# EAGLE library part TDA8551 (library power_amp)
The TDA8551; TDA8551T is a one channel 1 W Bridge-Tied Load (BTL) audio power amplifier capable of delivering 1 W output power to an 8 ? load at THD = 10% using a 5 V power supply. The circuit contains a BTL power amplifier, a digital volume control and standby/mute logic. The TDA8551T comes in an 8 pin SO package and the TDA8551 in a 8 pin DIP package.
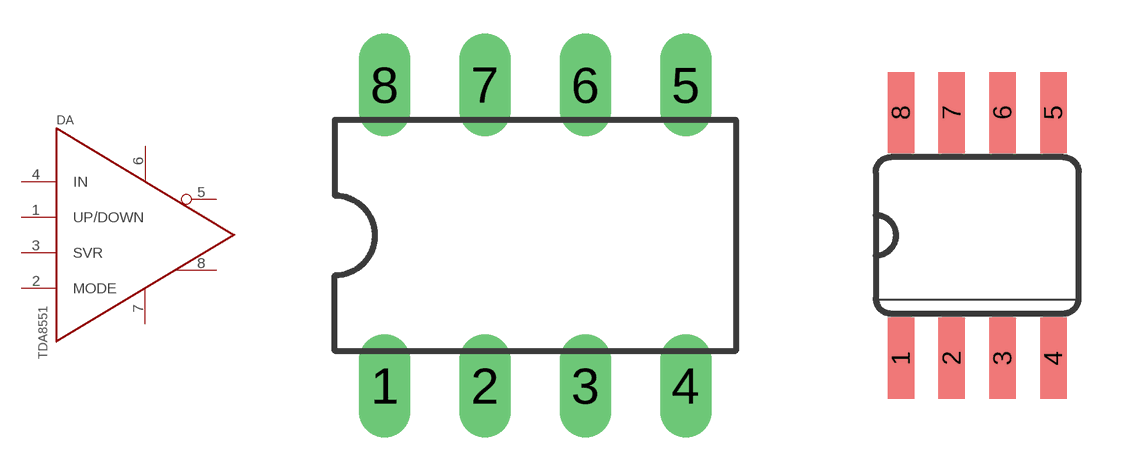
[diagram p2: symbol with the pads of DIL08; footprints DIL08, SO08]

Designator prefix DA

## TDA8551  [DIL08]
1  UP/DOWN  in
2  MODE  in
3  SVR  in
4  IN  in
5  OUT-  out
6  VCC  pwr
7  GND  pwr
8  OUT+  out

## TDA8551T  [SO08]
Pads as for DIL08

## Footprint DIL08 (pad centres in mm)
Dual In Line Package
drill 0.8 long: 1 -3.81,-3.81; 2 -1.27,-3.81; 3 1.27,-3.81; 4 3.81,-3.81; 5 3.81,3.81; 6 1.27,3.81; 7 -1.27,3.81; 8 -3.81,3.81

## Footprint SO08 (pad centres in mm)
Small Outline Package
smd 0.66 x 2.032: 1 -1.905,-3.073; 2 -0.635,-3.073; 3 0.635,-3.073; 4 1.905,-3.073; 5 1.905,3.073; 6 0.635,3.073; 7 -0.635,3.073; 8 -1.905,3.073